# EAGLE library part 825457-3 (library 825457-3)
MOD\ II\ HSG\ R\.A\.\ 3\ POS
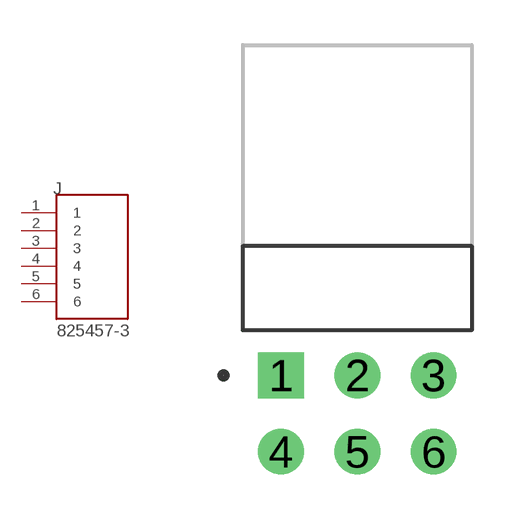
[diagram p0: symbol with the pads of TE_825457-3; footprint TE_825457-3]

Designator prefix J

## 825457-3 (Centerline_Pitch: 2.54 mm[.1 in]; Comment: 825457-3; Description: MOD II HSG R.A. 3 POS; Digi-Key_Part_Number: A122907-ND; Digi-Key_Purchase_URL: https://www.digikey.com/product-detail/en/te-connectivity-amp-connectors/825457-3/A122907-ND/5008513?utm_source=snapeda&utm_medium=aggregator&utm_campaign=symbol; EU_RoHS_Compliance: Compliant; MF: TE Connectivity; MP: 825457-3; Number_of_Positions: 6; Package: None; Product_Type: Connector; TE_purchase_URL: https://www.te.com/usa-en/product-825457-3.html?te_bu=Cor&te_type=disp&te_campaign=seda_glo_cor-seda-global-disp-prtnr-fy19-seda-model-bom-cta_sma-317_1&elqCampaignId=32493)  [TE_825457-3]
1  1  pas
2  2  pas
3  3  pas
4  4  pas
5  5  pas
6  6  pas

## Footprint TE_825457-3 (pad centres in mm)
drill 1.016 square: 1 0,0
drill 1.016: 2 2.54,0; 3 5.08,0; 4 0,-2.54; 5 2.54,-2.54; 6 5.08,-2.54